# Altium schematic symbol library CR0402-FX-2201GLF.SchLib: 1 symbol
Pins are listed as number, name and electrical type; pins without a type are passive.

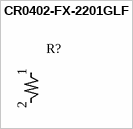
[diagram p0: symbol CR0402-FX-2201GLF]

## CR0402-FX-2201GLF
designator R?
Manufacturer_Name: Bourns Electronics; Manufacturer_Part_Number: CR0402-FX-2201GLF
pins: 1, 2